# Altium integrated library Analog Devices Data Converters Analog-to-Digital Converters.IntLib: 2404 symbols (part 45 of 346)
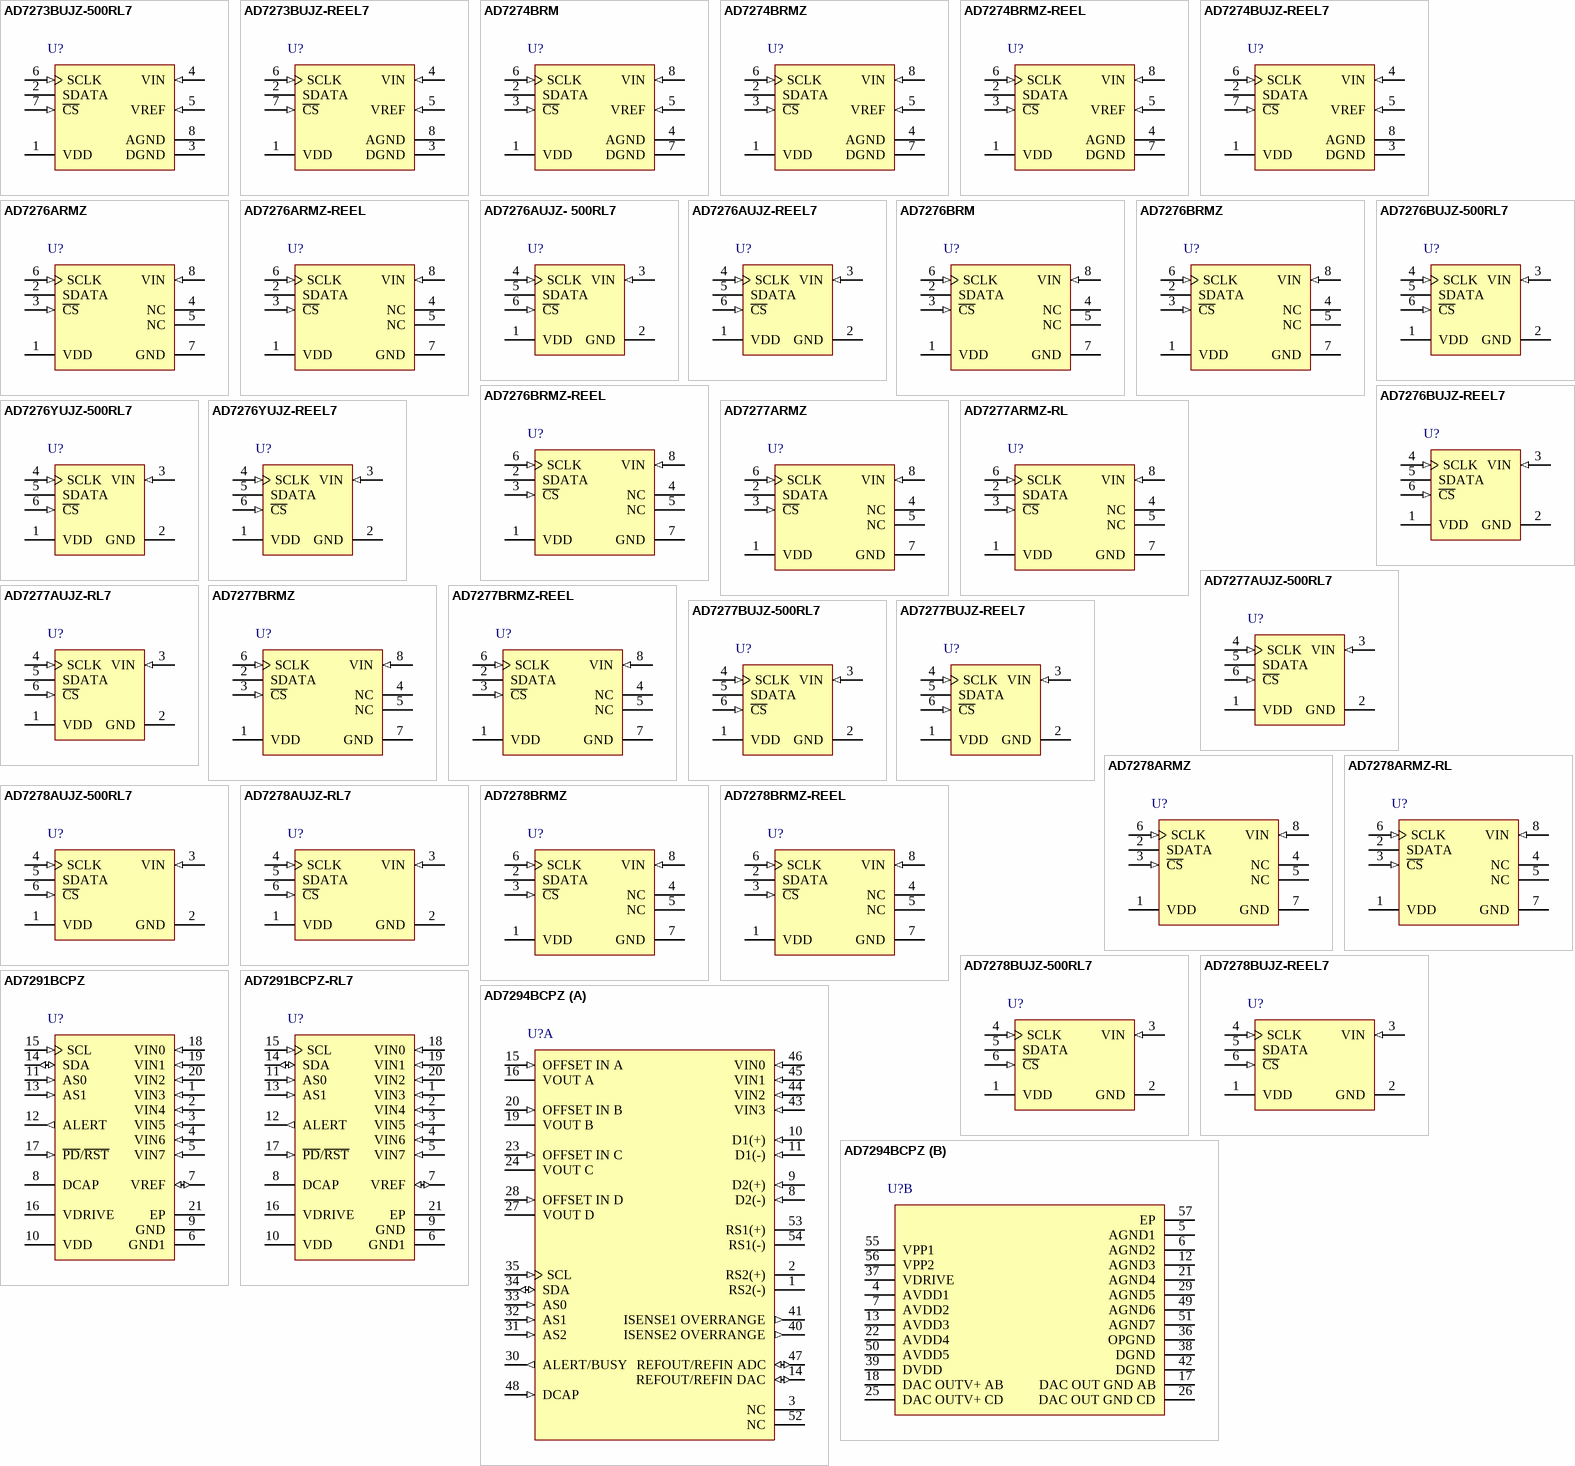
[diagram p180: symbols AD7273BUJZ-500RL7 to AD7294BCPZ]

## AD7278BRMZ
designator U?
Single 8-Bit Analog-to-Digital Converter with Serial, SPI Interface, 3MSPS, -40 to +125 degC, RM-8, Pb-Free, Tube; Generic Part Number: AD7278; Manufacturer: Analog Devices; PartNumber: AD7278BRMZ; Resolution (Bits): 8; Channels: 1; Throughput Rate (SPS): 3M; Interface: Ser, SPI; DatasheetVersion: Rev.C; PackageVersion: Aug-2005; PackageReference: RM-8; PackageDescription: 8-Lead Mini Small Outline Package [MSOP]; Supplier 1: Digi-Key; Supplier Part Number 1: AD7278BRMZ-ND; Supplier 2: Newark; Supplier Part Number 2: 59K4681; Supplier 3: Mouser; Supplier Part Number 3: 584-AD7278BRMZ; RoHS: Y; Packing: Tube; Mounting Technology: Surface Mount; Code_JEDEC: MO-187-AA; ComponentLink1Description: Manufacturer URL; ComponentLink1URL: http://www.analog.com/en/index.html; ComponentLink2Description: Datasheet; ComponentLink2URL: http://www.analog.com/static/imported-files/data_sheets/AD7276_7277_7278.pdf; ComponentLink3Description: Package Specification; ComponentLink3URL: http://www.analog.com/static/imported-files/packages/PKG_PDF/MSOP%28RM%29/RM_8.pdf; ComponentLink4Description: Product URL; ComponentLink4URL: http://www.analog.com/en/analog-to-digital-converters/ad-converters/ad7278/products/product.html
footprint RM-8_N (TSOP, 8-Leads, Body 3x3mm, Pitch 0.65mm, IPC Medium Density)
footprint RM-8_L (TSOP, 8-Leads, Body 3x3mm, Pitch 0.65mm, IPC High Density)
footprint RM-8_M (TSOP, 8-Leads, Body 3x3mm, Pitch 0.65mm, IPC Low Density)
pins: 1 VDD (power) "Power Supply Input. The VDD range for the AD7276/AD7277/AD7278 is 2.35 V to 3.6 V.", 2 SDATA (hiz) "Data Out. Logic output. The conversion result from the AD7276/AD7277/AD7278 is provided on this output as a serial data stream. The bits are clocked out on the falling edge of the SCLK input. The data stream from the AD7276 (See Datasheet)", 3 ~{CS} (in) "Chip Select. Active low logic input. This input provides the dual function of initiating conversion on the AD7276/AD7277/AD7278 and framing the serial data transfer.", 4 NC "No Connect.", 5 NC "No Connect.", 6 SCLK (in) "Serial Clock. Logic input. SCLK provides the serial clock for accessing data from the part. This clock input is also used as the clock source for the conversion process of the AD7276/AD7277/AD7278.", 7 GND (power) "Analog Ground. Ground reference point for all circuitry on the AD7276/AD7277/AD7278. All analog input signals should be referred to this GND voltage.", 8 VIN (in) "Analog Input. Single-ended analog input channel. The input range is 0 V to VDD."

## AD7278BRMZ-REEL
designator U?
Single 8-Bit Analog-to-Digital Converter with Serial, SPI Interface, 3MSPS, -40 to +125 degC, RM-8, Pb-Free, Reel; Generic Part Number: AD7278; Manufacturer: Analog Devices; PartNumber: AD7278BRMZ-REEL; Resolution (Bits): 8; Channels: 1; Throughput Rate (SPS): 3M; Interface: Ser, SPI; DatasheetVersion: Rev.C; PackageVersion: Aug-2005; PackageReference: RM-8; PackageDescription: 8-Lead Mini Small Outline Package [MSOP]; Supplier 1: Digi-Key; Supplier Part Number 1: AD7278BRMZ-REEL-ND; Supplier 2: Mouser; Supplier Part Number 2: 584-AD7278BRMZ-R; RoHS: Y; Packing: Reel; Mounting Technology: Surface Mount; Code_JEDEC: MO-187-AA; ComponentLink1Description: Manufacturer URL; ComponentLink1URL: http://www.analog.com/en/index.html; ComponentLink2Description: Datasheet; ComponentLink2URL: http://www.analog.com/static/imported-files/data_sheets/AD7276_7277_7278.pdf; ComponentLink3Description: Package Specification; ComponentLink3URL: http://www.analog.com/static/imported-files/packages/PKG_PDF/MSOP%28RM%29/RM_8.pdf; ComponentLink4Description: Product URL; ComponentLink4URL: http://www.analog.com/en/analog-to-digital-converters/ad-converters/ad7278/products/product.html
footprint RM-8_N (TSOP, 8-Leads, Body 3x3mm, Pitch 0.65mm, IPC Medium Density)
footprint RM-8_L (TSOP, 8-Leads, Body 3x3mm, Pitch 0.65mm, IPC High Density)
footprint RM-8_M (TSOP, 8-Leads, Body 3x3mm, Pitch 0.65mm, IPC Low Density)
pins: 1 VDD (power) "Power Supply Input. The VDD range for the AD7276/AD7277/AD7278 is 2.35 V to 3.6 V.", 2 SDATA (hiz) "Data Out. Logic output. The conversion result from the AD7276/AD7277/AD7278 is provided on this output as a serial data stream. The bits are clocked out on the falling edge of the SCLK input. The data stream from the AD7276 (See Datasheet)", 3 ~{CS} (in) "Chip Select. Active low logic input. This input provides the dual function of initiating conversion on the AD7276/AD7277/AD7278 and framing the serial data transfer.", 4 NC "No Connect.", 5 NC "No Connect.", 6 SCLK (in) "Serial Clock. Logic input. SCLK provides the serial clock for accessing data from the part. This clock input is also used as the clock source for the conversion process of the AD7276/AD7277/AD7278.", 7 GND (power) "Analog Ground. Ground reference point for all circuitry on the AD7276/AD7277/AD7278. All analog input signals should be referred to this GND voltage.", 8 VIN (in) "Analog Input. Single-ended analog input channel. The input range is 0 V to VDD."

## AD7278BUJZ-500RL7
designator U?
Single 8-Bit Analog-to-Digital Converter with Serial, SPI Interface, 3MSPS, -40 to +125 degC, UJ-6, Pb-Free, Reel; Generic Part Number: AD7278; Manufacturer: Analog Devices; PartNumber: AD7278BUJZ-500RL7; Resolution (Bits): 8; Channels: 1; Throughput Rate (SPS): 3M; Interface: Ser, SPI; DatasheetVersion: Rev.C; PackageVersion: Dec-2004; PackageReference: UJ-6; PackageDescription: 6-Lead Thin Small Outline Transistor Package [TSOT]; Supplier 1: Digi-Key; Supplier Part Number 1: AD7278BUJZ-500RL7TR-ND; Supplier 2: Digi-Key; Supplier Part Number 2: AD7278BUJZ-500RL7CT-ND; Supplier 3: Digi-Key; Supplier Part Number 3: AD7278BUJZ-500RL7DKR-ND; Supplier 4: Newark; Supplier Part Number 4: 59K4684; Supplier 5: Mouser; Supplier Part Number 5: 584-AD7278BUJZ-500R7; RoHS: Y; Packing: Reel; Mounting Technology: Surface Mount; Code_JEDEC: MO-193-AA*; ComponentLink1Description: Manufacturer URL; ComponentLink1URL: http://www.analog.com/en/index.html; ComponentLink2Description: Datasheet; ComponentLink2URL: http://www.analog.com/static/imported-files/data_sheets/AD7276_7277_7278.pdf; ComponentLink3Description: Package Specification; ComponentLink3URL: http://www.analog.com/static/imported-files/packages/PKG_PDF/TSOT(UJ)/UJ_6.pdf; ComponentLink4Description: Product URL; ComponentLink4URL: http://www.analog.com/en/analog-to-digital-converters/ad-converters/ad7278/products/product.html
footprint UJ-6_N (SOT23, 6-Leads, Body 2.9x1.6mm, Pitch 0.95mm, Lead Span 2.8mm, IPC Medium Density)
footprint UJ-6_L (SOT23, 6-Leads, Body 2.9x1.6mm, Pitch 0.95mm, Lead Span 2.8mm, IPC High Density)
footprint UJ-6_M (SOT23, 6-Leads, Body 2.9x1.6mm, Pitch 0.95mm, Lead Span 2.8mm, IPC Low Density)
pins: 1 VDD (power) "Power Supply Input. The VDD range for the AD7276/AD7277/AD7278 is 2.35 V to 3.6 V.", 2 GND (power) "Analog Ground. Ground reference point for all circuitry on the AD7276/AD7277/AD7278. All analog input signals should be referred to this GND voltage.", 3 VIN (in) "Analog Input. Single-ended analog input channel. The input range is 0 V to VDD.", 4 SCLK (in) "Serial Clock. Logic input. SCLK provides the serial clock for accessing data from the part. This clock input is also used as the clock source for the conversion process of the AD7276/AD7277/AD7278.", 5 SDATA (hiz) "Data Out. Logic output. The conversion result from the AD7276/AD7277/AD7278 is provided on this output as a serial data stream. The bits are clocked out on the falling edge of the SCLK input. The data stream from the AD7276 (See Datasheet)", 6 ~{CS} (in) "Chip Select. Active low logic input. This input provides the dual function of initiating conversion on the AD7276/AD7277/AD7278 and framing the serial data transfer."

## AD7278BUJZ-REEL7
designator U?
Single 8-Bit Analog-to-Digital Converter with Serial, SPI Interface, 3MSPS, -40 to +125 degC, UJ-6, Pb-Free, Reel; Generic Part Number: AD7278; Manufacturer: Analog Devices; PartNumber: AD7278BUJZ-REEL7; Resolution (Bits): 8; Channels: 1; Throughput Rate (SPS): 3M; Interface: Ser, SPI; DatasheetVersion: Rev.C; PackageVersion: Dec-2004; PackageReference: UJ-6; PackageDescription: 6-Lead Thin Small Outline Transistor Package [TSOT]; Supplier 1: Digi-Key; Supplier Part Number 1: AD7278BUJZ-REEL7TR-ND; Supplier 2: Digi-Key; Supplier Part Number 2: AD7278BUJZ-REEL7CT-ND; Supplier 3: Digi-Key; Supplier Part Number 3: AD7278BUJZ-REEL7DKR-ND; Supplier 4: Newark; Supplier Part Number 4: 59K4683; Supplier 5: Mouser; Supplier Part Number 5: 584-AD7278BUJZ-R7; RoHS: Y; Packing: Reel; Mounting Technology: Surface Mount; Code_JEDEC: MO-193-AA*; ComponentLink1Description: Manufacturer URL; ComponentLink1URL: http://www.analog.com/en/index.html; ComponentLink2Description: Datasheet; ComponentLink2URL: http://www.analog.com/static/imported-files/data_sheets/AD7276_7277_7278.pdf; ComponentLink3Description: Package Specification; ComponentLink3URL: http://www.analog.com/static/imported-files/packages/PKG_PDF/TSOT(UJ)/UJ_6.pdf; ComponentLink4Description: Product URL; ComponentLink4URL: http://www.analog.com/en/analog-to-digital-converters/ad-converters/ad7278/products/product.html
footprint UJ-6_N (SOT23, 6-Leads, Body 2.9x1.6mm, Pitch 0.95mm, Lead Span 2.8mm, IPC Medium Density)
footprint UJ-6_L (SOT23, 6-Leads, Body 2.9x1.6mm, Pitch 0.95mm, Lead Span 2.8mm, IPC High Density)
footprint UJ-6_M (SOT23, 6-Leads, Body 2.9x1.6mm, Pitch 0.95mm, Lead Span 2.8mm, IPC Low Density)
pins: 1 VDD (power) "Power Supply Input. The VDD range for the AD7276/AD7277/AD7278 is 2.35 V to 3.6 V.", 2 GND (power) "Analog Ground. Ground reference point for all circuitry on the AD7276/AD7277/AD7278. All analog input signals should be referred to this GND voltage.", 3 VIN (in) "Analog Input. Single-ended analog input channel. The input range is 0 V to VDD.", 4 SCLK (in) "Serial Clock. Logic input. SCLK provides the serial clock for accessing data from the part. This clock input is also used as the clock source for the conversion process of the AD7276/AD7277/AD7278.", 5 SDATA (hiz) "Data Out. Logic output. The conversion result from the AD7276/AD7277/AD7278 is provided on this output as a serial data stream. The bits are clocked out on the falling edge of the SCLK input. The data stream from the AD7276 (See Datasheet)", 6 ~{CS} (in) "Chip Select. Active low logic input. This input provides the dual function of initiating conversion on the AD7276/AD7277/AD7278 and framing the serial data transfer."

## AD7291BCPZ
designator U?
Octal 12-Bit SAR Analog-to-Digital Converter with I2C/Serial 2-Wire, Serial Interface and Temperature Sensor, 22.2KSPS, -40 to +125 degC, CP-20-8, Pb-Free, Tray; Generic Part Number: AD7291; Manufacturer: Analog Devices; PartNumber: AD7291BCPZ; Resolution (Bits): 12; Channels: 9; Throughput Rate (SPS): 22.2K; Interface: I2C/Ser 2-Wire, Ser; DatasheetVersion: Rev.B; PackageVersion: 020509-B; PackageReference: CP-20-8; PackageDescription: 20-Lead Lead Frame Chip Scale Package [LFCSP_WQ] 4 x 4 mm Body, Very Very Thin Quad; Supplier 1: Digi-Key; Supplier Part Number 1: AD7291BCPZ-ND; Supplier 2: Farnell; Supplier Part Number 2: 1897104; Supplier 3: Newark; Supplier Part Number 3: 31T9307; Supplier 4: Mouser; Supplier Part Number 4: 584-AD7291BCPZ; RoHS: Y; Packing: Tray; Mounting Technology: Surface Mount; Code_JEDEC: MO-220-WGGD; ComponentLink1Description: Manufacturer URL; ComponentLink1URL: http://www.analog.com/en/index.html; ComponentLink2Description: Datasheet; ComponentLink2URL: http://www.analog.com/static/imported-files/data_sheets/AD7291.pdf; ComponentLink3Description: Package Specification; ComponentLink3URL: http://www.analog.com/static/imported-files/packages/PKG_PDF/LFCSP(CP)/CP-20/CP_20_8.pdf; ComponentLink4Description: Product URL; ComponentLink4URL: http://www.analog.com/en/analog-to-digital-converters/ad-converters/ad7291/products/product.html
footprint CP-20-8_N (QFN, 20-Leads, Body 4x4mm, Pitch 0.5mm, Thermal Pad 2.6x2.6mm, IPC Medium Density)
footprint CP-20-8_L (QFN, 20-Leads, Body 4x4mm, Pitch 0.5mm, Thermal Pad 2.6x2.6mm, IPC High Density)
footprint CP-20-8_M (QFN, 20-Leads, Body 4x4mm, Pitch 0.5mm, Thermal Pad 2.6x2.6mm, IPC Low Density)
pins: 1 VIN3 (in) "Analog Inputs. The AD7291 has eight single-ended analog inputs that are multiplexed into the on-chip track-and-hold amplifier. Each input channel can accept analog inputs from 0 V to 2.5 V. Any unused input channels should (See Datasheet)", 2 VIN4 (in) "Analog Inputs. The AD7291 has eight single-ended analog inputs that are multiplexed into the on-chip track-and-hold amplifier. Each input channel can accept analog inputs from 0 V to 2.5 V. Any unused input channels should (See Datasheet)", 3 VIN5 (in) "Analog Inputs. The AD7291 has eight single-ended analog inputs that are multiplexed into the on-chip track-and-hold amplifier. Each input channel can accept analog inputs from 0 V to 2.5 V. Any unused input channels should (See Datasheet)", 4 VIN6 (in) "Analog Inputs. The AD7291 has eight single-ended analog inputs that are multiplexed into the on-chip track-and-hold amplifier. Each input channel can accept analog inputs from 0 V to 2.5 V. Any unused input channels should (See Datasheet)", 5 VIN7 (in) "Analog Inputs. The AD7291 has eight single-ended analog inputs that are multiplexed into the on-chip track-and-hold amplifier. Each input channel can accept analog inputs from 0 V to 2.5 V. Any unused input channels should (See Datasheet)", 6 GND1 (power) "Ground. Ground reference point for the internal reference circuitry on the AD7291. All analog input signals and the external reference signals should be referred to this GND1 voltage. The GND1 pin should be connected to the (See Datasheet)", 7 VREF (io) "Internal Reference/External Reference Supply. The nominal internal reference voltage of 2.5 V appears at this pin.Provided the output is buffered, the on-chip reference can be taken from this pin and applied externally to (See Datasheet)", 8 DCAP "Decoupling Capacitor Pin. Decoupling capacitors (1 uF recommended) are connected to this pin to decouple the internal LDO.", 9 GND (power) "Ground. Ground reference point for all analog and digital circuitry on the AD7291. The GND pin should be connected to the ground plane of the system. All ground pins should ideally be at the same potential and must not be (See Datasheet)", 10 VDD (power) "Supply Voltage, 2.8 V to 3.6 V. This supply should be decoupled to GND with 10 uF and 100 nF decoupling capacitors.", 11 AS0 (in) "Logic Input. Together, the logic state of these two inputs selects a unique I2C address for the AD7291.See Table 31 for details. The device address depends on the voltage applied to these pins.", 12 ALERT (out) "Digital Output. This pin acts as an out-of-range indicator and, if enabled, becomes active when the conversion result violates the DATAHIGH or DATALOW register values. See the Limit Registers (0x04 to 0x1E) section.", 13 AS1 (in) "Logic Input. Together, the logic state of these two inputs selects a unique I2C address for the AD7291.See Table 31 for details. The device address depends on the voltage applied to these pins.", 14 SDA (io) "Digital Input/Output. Serial bus bidirectional data. This open-drain output requires a pull-up resistor. The output coding is straight binary for the voltage channels and twos complement for the temperature sensor result.", 15 SCL (in) "Digital Input. Serial I2C Bus Clock. This input requires a pull-up resistor. The data transfer rate in I2C  mode is compatible with both 100 kHz and 400 kHz operating modes.", 16 VDRIVE (power) "Logic Power Supply Input. The voltage supplied at this pin determines the voltage at which the interface operates.This pin should be decoupled to GND. The voltage range on this pin is 1.65 V to 3.6 V and may be less than the (See Datasheet)", 17 ~{PD}/~{RST} (in) "Power-Down Pin. This pin places the part into a full power-down mode and enables power conservation when operation is not required. This pin can be used to reset the device by toggling the pin low for a minimum of 1 ns and a (See Datasheet)", 18 VIN0 (in) "Analog Inputs. The AD7291 has eight single-ended analog inputs that are multiplexed into the on-chip track-and-hold amplifier. Each input channel can accept analog inputs from 0 V to 2.5 V. Any unused input channels should (See Datasheet)", 19 VIN1 (in) "Analog Inputs. The AD7291 has eight single-ended analog inputs that are multiplexed into the on-chip track-and-hold amplifier. Each input channel can accept analog inputs from 0 V to 2.5 V. Any unused input channels should (See Datasheet)", 20 VIN2 (in) "Analog Inputs. The AD7291 has eight single-ended analog inputs that are multiplexed into the on-chip track-and-hold amplifier. Each input channel can accept analog inputs from 0 V to 2.5 V. Any unused input channels should (See Datasheet)", 21 EP (power) "Exposed Paddle. The exposed metal paddle on the bottom of the LFCSP package should be soldered to PCB ground for proper functionality and heat dissipation."

## AD7291BCPZ-RL7
designator U?
Octal 12-Bit SAR Analog-to-Digital Converter with I2C/Serial 2-Wire, Serial Interface and Temperature Sensor, 22.2KSPS, -40 to +125 degC, CP-20-8, Pb-Free, Reel; Generic Part Number: AD7291; Manufacturer: Analog Devices; PartNumber: AD7291BCPZ-RL7; Resolution (Bits): 12; Channels: 9; Throughput Rate (SPS): 22.2K; Interface: I2C/Ser 2-Wire, Ser; DatasheetVersion: Rev.B; PackageVersion: 020509-B; PackageReference: CP-20-8; PackageDescription: 20-Lead Lead Frame Chip Scale Package [LFCSP_WQ] 4 x 4 mm Body, Very Very Thin Quad; Supplier 1: Digi-Key; Supplier Part Number 1: AD7291BCPZ-RL7-ND; Supplier 2: Newark; Supplier Part Number 2: 31T9308; Supplier 3: Mouser; Supplier Part Number 3: 584-AD7291BCPZ-R7; RoHS: Y; Packing: Reel; Mounting Technology: Surface Mount; Code_JEDEC: MO-220-WGGD; ComponentLink1Description: Manufacturer URL; ComponentLink1URL: http://www.analog.com/en/index.html; ComponentLink2Description: Datasheet; ComponentLink2URL: http://www.analog.com/static/imported-files/data_sheets/AD7291.pdf; ComponentLink3Description: Package Specification; ComponentLink3URL: http://www.analog.com/static/imported-files/packages/PKG_PDF/LFCSP(CP)/CP-20/CP_20_8.pdf; ComponentLink4Description: Product URL; ComponentLink4URL: http://www.analog.com/en/analog-to-digital-converters/ad-converters/ad7291/products/product.html
footprint CP-20-8_N (QFN, 20-Leads, Body 4x4mm, Pitch 0.5mm, Thermal Pad 2.6x2.6mm, IPC Medium Density)
footprint CP-20-8_L (QFN, 20-Leads, Body 4x4mm, Pitch 0.5mm, Thermal Pad 2.6x2.6mm, IPC High Density)
footprint CP-20-8_M (QFN, 20-Leads, Body 4x4mm, Pitch 0.5mm, Thermal Pad 2.6x2.6mm, IPC Low Density)
pins: 1 VIN3 (in) "Analog Inputs. The AD7291 has eight single-ended analog inputs that are multiplexed into the on-chip track-and-hold amplifier. Each input channel can accept analog inputs from 0 V to 2.5 V. Any unused input channels should (See Datasheet)", 2 VIN4 (in) "Analog Inputs. The AD7291 has eight single-ended analog inputs that are multiplexed into the on-chip track-and-hold amplifier. Each input channel can accept analog inputs from 0 V to 2.5 V. Any unused input channels should (See Datasheet)", 3 VIN5 (in) "Analog Inputs. The AD7291 has eight single-ended analog inputs that are multiplexed into the on-chip track-and-hold amplifier. Each input channel can accept analog inputs from 0 V to 2.5 V. Any unused input channels should (See Datasheet)", 4 VIN6 (in) "Analog Inputs. The AD7291 has eight single-ended analog inputs that are multiplexed into the on-chip track-and-hold amplifier. Each input channel can accept analog inputs from 0 V to 2.5 V. Any unused input channels should (See Datasheet)", 5 VIN7 (in) "Analog Inputs. The AD7291 has eight single-ended analog inputs that are multiplexed into the on-chip track-and-hold amplifier. Each input channel can accept analog inputs from 0 V to 2.5 V. Any unused input channels should (See Datasheet)", 6 GND1 (power) "Ground. Ground reference point for the internal reference circuitry on the AD7291. All analog input signals and the external reference signals should be referred to this GND1 voltage. The GND1 pin should be connected to the (See Datasheet)", 7 VREF (io) "Internal Reference/External Reference Supply. The nominal internal reference voltage of 2.5 V appears at this pin.Provided the output is buffered, the on-chip reference can be taken from this pin and applied externally to (See Datasheet)", 8 DCAP "Decoupling Capacitor Pin. Decoupling capacitors (1 uF recommended) are connected to this pin to decouple the internal LDO.", 9 GND (power) "Ground. Ground reference point for all analog and digital circuitry on the AD7291. The GND pin should be connected to the ground plane of the system. All ground pins should ideally be at the same potential and must not be (See Datasheet)", 10 VDD (power) "Supply Voltage, 2.8 V to 3.6 V. This supply should be decoupled to GND with 10 uF and 100 nF decoupling capacitors.", 11 AS0 (in) "Logic Input. Together, the logic state of these two inputs selects a unique I2C address for the AD7291.See Table 31 for details. The device address depends on the voltage applied to these pins.", 12 ALERT (out) "Digital Output. This pin acts as an out-of-range indicator and, if enabled, becomes active when the conversion result violates the DATAHIGH or DATALOW register values. See the Limit Registers (0x04 to 0x1E) section.", 13 AS1 (in) "Logic Input. Together, the logic state of these two inputs selects a unique I2C address for the AD7291.See Table 31 for details. The device address depends on the voltage applied to these pins.", 14 SDA (io) "Digital Input/Output. Serial bus bidirectional data. This open-drain output requires a pull-up resistor. The output coding is straight binary for the voltage channels and twos complement for the temperature sensor result.", 15 SCL (in) "Digital Input. Serial I2C Bus Clock. This input requires a pull-up resistor. The data transfer rate in I2C  mode is compatible with both 100 kHz and 400 kHz operating modes.", 16 VDRIVE (power) "Logic Power Supply Input. The voltage supplied at this pin determines the voltage at which the interface operates.This pin should be decoupled to GND. The voltage range on this pin is 1.65 V to 3.6 V and may be less than the (See Datasheet)", 17 ~{PD}/~{RST} (in) "Power-Down Pin. This pin places the part into a full power-down mode and enables power conservation when operation is not required. This pin can be used to reset the device by toggling the pin low for a minimum of 1 ns and a (See Datasheet)", 18 VIN0 (in) "Analog Inputs. The AD7291 has eight single-ended analog inputs that are multiplexed into the on-chip track-and-hold amplifier. Each input channel can accept analog inputs from 0 V to 2.5 V. Any unused input channels should (See Datasheet)", 19 VIN1 (in) "Analog Inputs. The AD7291 has eight single-ended analog inputs that are multiplexed into the on-chip track-and-hold amplifier. Each input channel can accept analog inputs from 0 V to 2.5 V. Any unused input channels should (See Datasheet)", 20 VIN2 (in) "Analog Inputs. The AD7291 has eight single-ended analog inputs that are multiplexed into the on-chip track-and-hold amplifier. Each input channel can accept analog inputs from 0 V to 2.5 V. Any unused input channels should (See Datasheet)", 21 EP (power) "Exposed Paddle. The exposed metal paddle on the bottom of the LFCSP package should be soldered to PCB ground for proper functionality and heat dissipation."

## AD7294BCPZ
designator U?
12-Bit Monitor and Control System with Multichannel ADC, DAC, Temperature Sensor, and Current Sense, 200KSPS, -40 to +105 degC, CP-56-1, Pb-Free, Tray; Generic Part Number: AD7294; Manufacturer: Analog Devices; PartNumber: AD7294BCPZ; Resolution (Bits): 12; Channels: 9; Throughput Rate (SPS): 200K; Interface: I2C/Ser 2-Wire, Ser; DatasheetVersion: Rev.H; PackageVersion: 112805-0; PackageReference: CP-56-1; PackageDescription: 56-Lead Lead Frame Chip Scale Package [LFCSP_VQ], 8 x 8 mm Body, Very Thin Quad; Supplier 1: Digi-Key; Supplier Part Number 1: AD7294BCPZ-ND; Supplier 2: Mouser; Supplier Part Number 2: 584-AD7294BCPZ; RoHS: Y; Packing: Tray; Mounting Technology: Surface Mount; Code_JEDEC: MO-220-VLLD-2; ComponentLink1Description: Manufacturer URL; ComponentLink1URL: http://www.analog.com/en/index.html; ComponentLink2Description: Datasheet; ComponentLink2URL: http://www.analog.com/static/imported-files/data_sheets/AD7294.pdf; ComponentLink3Description: Package Specification; ComponentLink3URL: http://www.analog.com/static/imported-files/packages/32698137492825CP_56_1.pdf; ComponentLink4Description: Product URL; ComponentLink4URL: http://www.analog.com/en/analog-to-digital-converters/ad-converters/ad7294/products/product.html
footprint CP-56-1_N (QFN, 56-Leads, Body 8x8mm, Pitch 0.5mm, Thermal Pad 6.1x6.1mm, IPC Medium Density)
footprint CP-56-1_L (QFN, 56-Leads, Body 8x8mm, Pitch 0.5mm, Thermal Pad 6.1x6.1mm, IPC High Density)
footprint CP-56-1_M (QFN, 56-Leads, Body 8x8mm, Pitch 0.5mm, Thermal Pad 6.1x6.1mm, IPC Low Density)
part A pins: 1 RS2(-) "Connection for External Shunt Resistor", 2 RS2(+) "Connection for External Shunt Resistor", 3 NC "No Connection. Do not connect these pins.", 8 D2(-) (in) "Temperature Sensor Analog Input. These pins are connected to the external temperature sensing transistor. See Figure 46 and Figure 47.", 9 D2(+) (in) "Temperature Sensor Analog Input. These pins are connected to the external temperature sensing transistor. See Figure 46 and Figure 47.", 10 D1(+) (in) "Temperature Sensor Analog Input. These pins are connected to the external temperature sensing transistor. See Figure 46 and Figure 47.", 11 D1(-) (in) "Temperature Sensor Analog Input. These pins are connected to the external temperature sensing transistor. See Figure 46 and Figure 47.", 14 REFOUT/REFIN DAC (io) "DAC Reference Output/Input Pin. The REFOUT/REFIN DAC pin is common to all four DAC channels. On power-up, the default configuration of this pin is external reference (REFIN). Enable the internal reference by writing to the (See Datasheet)", 15 OFFSET IN A (in) "DAC Analog Offset Input Pins. These pins set the desired output range for each DAC channel. The DACs have an output voltage span of 5 V, which can be shifted from 0 V to 5 V to a maximum output voltage of 10 V to 15 V by (See Datasheet)", 16 VOUT A (hiz) "Buffered Analog DAC Outputs for Channel A to Channel D. Each DAC analog output is driven from an output amplifier that can be offset using the OFFSET IN x pin. The DAC has a maximum output voltage span of 5 V that can be (See Datasheet)", 19 VOUT B (hiz) "Buffered Analog DAC Outputs for Channel A to Channel D. Each DAC analog output is driven from an output amplifier that can be offset using the OFFSET IN x pin. The DAC has a maximum output voltage span of 5 V that can be (See Datasheet)", 20 OFFSET IN B (in) "DAC Analog Offset Input Pins. These pins set the desired output range for each DAC channel. The DACs have an output voltage span of 5 V, which can be shifted from 0 V to 5 V to a maximum output voltage of 10 V to 15 V by (See Datasheet)", 23 OFFSET IN C (in) "DAC Analog Offset Input Pins. These pins set the desired output range for each DAC channel. The DACs have an output voltage span of 5 V, which can be shifted from 0 V to 5 V to a maximum output voltage of 10 V to 15 V by (See Datasheet)", 24 VOUT C (hiz) "Buffered Analog DAC Outputs for Channel A to Channel D. Each DAC analog output is driven from an output amplifier that can be offset using the OFFSET IN x pin. The DAC has a maximum output voltage span of 5 V that can be (See Datasheet)", 27 VOUT D (hiz) "Buffered Analog DAC Outputs for Channel A to Channel D. Each DAC analog output is driven from an output amplifier that can be offset using the OFFSET IN x pin. The DAC has a maximum output voltage span of 5 V that can be (See Datasheet)", 28 OFFSET IN D (in) "DAC Analog Offset Input Pins. These pins set the desired output range for each DAC channel. The DACs have an output voltage span of 5 V, which can be shifted from 0 V to 5 V to a maximum output voltage of 10 V to 15 V by (See Datasheet)", 30 ALERT/BUSY (out) "Digital Output. Selectable as an alert or busy output function in the configuration register. This is an open-drain output. An external pull-up resistor is required.When configured as an alert, this pin acts as an (See Datasheet)", 31 AS2 (in) "Digital Logic Input. Together, the logic state of these inputs selects a unique I2C address for the AD7294. See Table 34 for details.", 32 AS1 (in) "Digital Logic Input. Together, the logic state of these inputs selects a unique I2C address for the AD7294. See Table 34 for details.", 33 AS0 (in) "Digital Logic Input. Together, the logic state of these inputs selects a unique I2C address for the AD7294. See Table 34 for details.", 34 SDA (io) "Digital Input/Output. Serial bus bidirectional data; external pull-up resistor required.", 35 SCL (in) "Serial I2C Bus Clock. The data transfer rate in I2C mode is compatible with both 100 kHz and 400 kHz operating modes. Open-drain input; external pull-up resistor required.", 40 ISENSE2 OVERRANGE (out) "Fault Comparator Outputs. These pins connect to the high-side current sense amplifiers.", 41 ISENSE1 OVERRANGE (out) "Fault Comparator Outputs. These pins connect to the high-side current sense amplifiers.", 43 VIN3 (in) "Uncommitted ADC Analog Inputs. These pins are programmable as four single-ended channels or two true differential analog input channel pairs.", 44 VIN2 (in) "Uncommitted ADC Analog Inputs. These pins are programmable as four single-ended channels or two true differential analog input channel pairs.", 45 VIN1 (in) "Uncommitted ADC Analog Inputs. These pins are programmable as four single-ended channels or two true differential analog input channel pairs.", 46 VIN0 (in) "Uncommitted ADC Analog Inputs. These pins are programmable as four single-ended channels or two true differential analog input channel pairs.", 47 REFOUT/REFIN ADC (io) "ADC Reference Input/Output Pin. The REFOUT/REFIN ADC pin provides the reference source for the ADC. Upon power-up, the default configuration of this pin is external reference (REFIN). Enable the internal reference by writing (See Datasheet)", 48 DCAP (in) "External Decoupling Capacitor Input for Internal Temperature Sensor. Decouple this pin to AGND using a 0.1 uF capacitor. In normal operation, the voltage is typically 3.7 V.", 52 NC "No Connection. Do not connect these pins.", 53 RS1(+) "Connection for External Shunt Resistor", 54 RS1(-) "Connection for External Shunt Resistor"
part B pins: 4 AVDD1 (power) "Analog Supply Pins. The operating range is 4.5 V to 5.5 V. These pins provide the supply voltage for all the analog circuitry on the AD7294. Connect the AVDD and DVDD pins together to ensure that all supply pins are at the (See Datasheet)", 5 AGND1 (power) "Analog Ground. Ground reference point for all analog circuitry on the AD7294. Refer all analog input signals and any external reference signal to this AGND voltage. Connect all seven of these AGND pins to the AGND plane of (See Datasheet)", 6 AGND2 (power) "Analog Ground. Ground reference point for all analog circuitry on the AD7294. Refer all analog input signals and any external reference signal to this AGND voltage. Connect all seven of these AGND pins to the AGND plane of (See Datasheet)", 7 AVDD2 (power) "Analog Supply Pins. The operating range is 4.5 V to 5.5 V. These pins provide the supply voltage for all the analog circuitry on the AD7294. Connect the AVDD and DVDD pins together to ensure that all supply pins are at the (See Datasheet)", 12 AGND3 (power) "Analog Ground. Ground reference point for all analog circuitry on the AD7294. Refer all analog input signals and any external reference signal to this AGND voltage. Connect all seven of these AGND pins to the AGND plane of (See Datasheet)", 13 AVDD3 (power) "Analog Supply Pins. The operating range is 4.5 V to 5.5 V. These pins provide the supply voltage for all the analog circuitry on the AD7294. Connect the AVDD and DVDD pins together to ensure that all supply pins are at the (See Datasheet)", 17 DAC OUT GND AB (power) "Analog Ground. Analog ground pins for the DAC output amplifiers on VOUTA and VOUTB, and VOUTC and VOUTD, respectively.", 18 DAC OUTV+ AB (power) "Analog Supply. Analog supply pins for the DAC output amplifiers on VOUTA and VOUTB, and VOUTC and VOUTD, respectively. The operating range is 4.5 V to 16.5 V.", 21 AGND4 (power) "Analog Ground. Ground reference point for all analog circuitry on the AD7294. Refer all analog input signals and any external reference signal to this AGND voltage. Connect all seven of these AGND pins to the AGND plane of (See Datasheet)", 22 AVDD4 (power) "Analog Supply Pins. The operating range is 4.5 V to 5.5 V. These pins provide the supply voltage for all the analog circuitry on the AD7294. Connect the AVDD and DVDD pins together to ensure that all supply pins are at the (See Datasheet)", 25 DAC OUTV+ CD (power) "Analog Supply. Analog supply pins for the DAC output amplifiers on VOUTA and VOUTB, and VOUTC and VOUTD, respectively. The operating range is 4.5 V to 16.5 V.", 26 DAC OUT GND CD (power) "Analog Ground. Analog ground pins for the DAC output amplifiers on VOUTA and VOUTB, and VOUTC and VOUTD, respectively.", 29 AGND5 (power) "Analog Ground. Ground reference point for all analog circuitry on the AD7294. Refer all analog input signals and any external reference signal to this AGND voltage. Connect all seven of these AGND pins to the AGND plane of (See Datasheet)", 36 OPGND (power) "Dedicated Ground Pin for I2C Interface.", 37 VDRIVE (power) "Logic Power Supply. The voltage supplied at this pin determines at what voltage the interface operates. Decouple this pin to DGND. The voltage range on this pin is 2.7 V to 5.5 V and may be different to the voltage level at (See Datasheet)", 38 DGND (power) "Digital Ground. This pin is the ground for all digital circuitry.", 39 DVDD (power) "Logic Power Supply. The operating range is 4.5 V to 5.5 V. These pins provide the supply voltage for all the digital circuitry on the AD7294. Connect the AVDD and DVDD pins together to ensure that all supply pins are at the (See Datasheet)", 42 DGND (power) "Digital Ground. This pin is the ground for all digital circuitry.", 49 AGND6 (power) "Analog Ground. Ground reference point for all analog circuitry on the AD7294. Refer all analog input signals and any external reference signal to this AGND voltage. Connect all seven of these AGND pins to the AGND plane of (See Datasheet)", 50 AVDD5 (power) "Analog Supply Pins. The operating range is 4.5 V to 5.5 V. These pins provide the supply voltage for all the analog circuitry on the AD7294. Connect the AVDD and DVDD pins together to ensure that all supply pins are at the (See Datasheet)", 51 AGND7 (power) "Analog Ground. Ground reference point for all analog circuitry on the AD7294. Refer all analog input signals and any external reference signal to this AGND voltage. Connect all seven of these AGND pins to the AGND plane of (See Datasheet)", 55 VPP1 (power) "Current Sensor Supply Pins. Power supply pins for the high-side current sense amplifiers. Operating range is from AVDD to 59.4 V. Decouple this supply to AGND.", 56 VPP2 (power) "Current Sensor Supply Pins. Power supply pins for the high-side current sense amplifiers. Operating range is from AVDD to 59.4 V. Decouple this supply to AGND.", 57 EP (power) "The exposed pad is located on the underside of the package. Connect the exposed pad to the ground plane of the PCB using multiple vias."

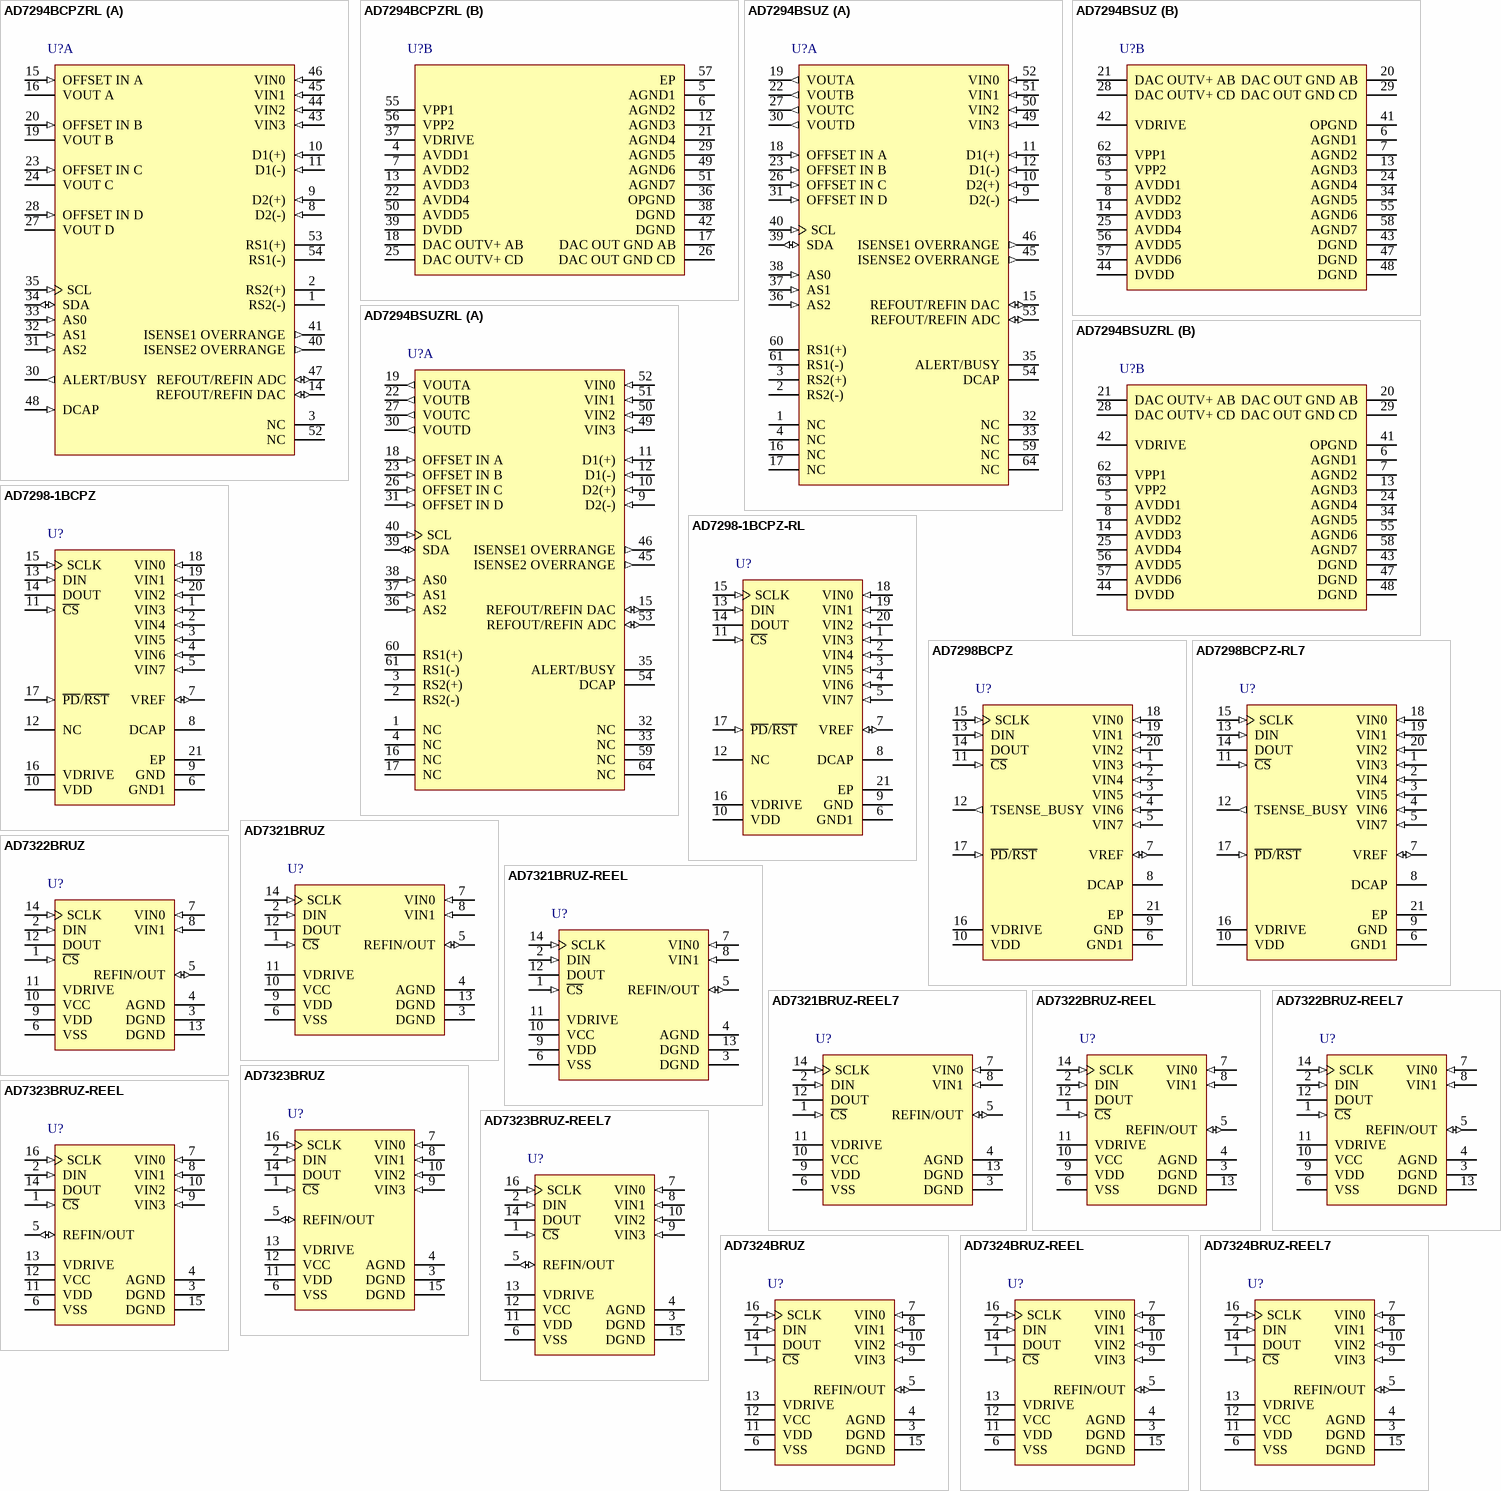
[diagram p19: symbols AD7294BCPZRL to AD7324BRUZ-REEL7]

## AD7294BCPZRL
designator U?
12-Bit Monitor and Control System with Multichannel ADC, DAC, Temperature Sensor, and Current Sense, 200KSPS, -40 to +105 degC, CP-56-1, Pb-Free, Reel; Generic Part Number: AD7294; Manufacturer: Analog Devices; PartNumber: AD7294BCPZRL; Resolution (Bits): 12; Channels: 9; Throughput Rate (SPS): 200K; Interface: I2C/Ser 2-Wire, Ser; DatasheetVersion: Rev.H; PackageVersion: 112805-0; PackageReference: CP-56-1; PackageDescription: 56-Lead Lead Frame Chip Scale Package [LFCSP_VQ], 8 x 8 mm Body, Very Thin Quad; Supplier 1: Digi-Key; Supplier Part Number 1: AD7294BCPZRL-ND; Supplier 2: Newark; Supplier Part Number 2: 18T2144; Supplier 3: Mouser; Supplier Part Number 3: 584-AD7294BCPZR; RoHS: Y; Packing: Reel; Mounting Technology: Surface Mount; Code_JEDEC: MO-220-VLLD-2; ComponentLink1Description: Manufacturer URL; ComponentLink1URL: http://www.analog.com/en/index.html; ComponentLink2Description: Datasheet; ComponentLink2URL: http://www.analog.com/static/imported-files/data_sheets/AD7294.pdf; ComponentLink3Description: Package Specification; ComponentLink3URL: http://www.analog.com/static/imported-files/packages/32698137492825CP_56_1.pdf; ComponentLink4Description: Product URL; ComponentLink4URL: http://www.analog.com/en/analog-to-digital-converters/ad-converters/ad7294/products/product.html
footprint CP-56-1_N (QFN, 56-Leads, Body 8x8mm, Pitch 0.5mm, Thermal Pad 6.1x6.1mm, IPC Medium Density)
footprint CP-56-1_L (QFN, 56-Leads, Body 8x8mm, Pitch 0.5mm, Thermal Pad 6.1x6.1mm, IPC High Density)
footprint CP-56-1_M (QFN, 56-Leads, Body 8x8mm, Pitch 0.5mm, Thermal Pad 6.1x6.1mm, IPC Low Density)
part A pins: 1 RS2(-) "Connection for External Shunt Resistor", 2 RS2(+) "Connection for External Shunt Resistor", 3 NC "No Connection. Do not connect these pins.", 8 D2(-) (in) "Temperature Sensor Analog Input. These pins are connected to the external temperature sensing transistor. See Figure 46 and Figure 47.", 9 D2(+) (in) "Temperature Sensor Analog Input. These pins are connected to the external temperature sensing transistor. See Figure 46 and Figure 47.", 10 D1(+) (in) "Temperature Sensor Analog Input. These pins are connected to the external temperature sensing transistor. See Figure 46 and Figure 47.", 11 D1(-) (in) "Temperature Sensor Analog Input. These pins are connected to the external temperature sensing transistor. See Figure 46 and Figure 47.", 14 REFOUT/REFIN DAC (io) "DAC Reference Output/Input Pin. The REFOUT/REFIN DAC pin is common to all four DAC channels. On power-up, the default configuration of this pin is external reference (REFIN). Enable the internal reference by writing to the (See Datasheet)", 15 OFFSET IN A (in) "DAC Analog Offset Input Pins. These pins set the desired output range for each DAC channel. The DACs have an output voltage span of 5 V, which can be shifted from 0 V to 5 V to a maximum output voltage of 10 V to 15 V by (See Datasheet)", 16 VOUT A (hiz) "Buffered Analog DAC Outputs for Channel A to Channel D. Each DAC analog output is driven from an output amplifier that can be offset using the OFFSET IN x pin. The DAC has a maximum output voltage span of 5 V that can be (See Datasheet)", 19 VOUT B (hiz) "Buffered Analog DAC Outputs for Channel A to Channel D. Each DAC analog output is driven from an output amplifier that can be offset using the OFFSET IN x pin. The DAC has a maximum output voltage span of 5 V that can be (See Datasheet)", 20 OFFSET IN B (in) "DAC Analog Offset Input Pins. These pins set the desired output range for each DAC channel. The DACs have an output voltage span of 5 V, which can be shifted from 0 V to 5 V to a maximum output voltage of 10 V to 15 V by (See Datasheet)", 23 OFFSET IN C (in) "DAC Analog Offset Input Pins. These pins set the desired output range for each DAC channel. The DACs have an output voltage span of 5 V, which can be shifted from 0 V to 5 V to a maximum output voltage of 10 V to 15 V by (See Datasheet)", 24 VOUT C (hiz) "Buffered Analog DAC Outputs for Channel A to Channel D. Each DAC analog output is driven from an output amplifier that can be offset using the OFFSET IN x pin. The DAC has a maximum output voltage span of 5 V that can be (See Datasheet)", 27 VOUT D (hiz) "Buffered Analog DAC Outputs for Channel A to Channel D. Each DAC analog output is driven from an output amplifier that can be offset using the OFFSET IN x pin. The DAC has a maximum output voltage span of 5 V that can be (See Datasheet)", 28 OFFSET IN D (in) "DAC Analog Offset Input Pins. These pins set the desired output range for each DAC channel. The DACs have an output voltage span of 5 V, which can be shifted from 0 V to 5 V to a maximum output voltage of 10 V to 15 V by (See Datasheet)", 30 ALERT/BUSY (out) "Digital Output. Selectable as an alert or busy output function in the configuration register. This is an open-drain output. An external pull-up resistor is required.When configured as an alert, this pin acts as an (See Datasheet)", 31 AS2 (in) "Digital Logic Input. Together, the logic state of these inputs selects a unique I2C address for the AD7294. See Table 34 for details.", 32 AS1 (in) "Digital Logic Input. Together, the logic state of these inputs selects a unique I2C address for the AD7294. See Table 34 for details.", 33 AS0 (in) "Digital Logic Input. Together, the logic state of these inputs selects a unique I2C address for the AD7294. See Table 34 for details.", 34 SDA (io) "Digital Input/Output. Serial bus bidirectional data; external pull-up resistor required.", 35 SCL (in) "Serial I2C Bus Clock. The data transfer rate in I2C mode is compatible with both 100 kHz and 400 kHz operating modes. Open-drain input; external pull-up resistor required.", 40 ISENSE2 OVERRANGE (out) "Fault Comparator Outputs. These pins connect to the high-side current sense amplifiers.", 41 ISENSE1 OVERRANGE (out) "Fault Comparator Outputs. These pins connect to the high-side current sense amplifiers.", 43 VIN3 (in) "Uncommitted ADC Analog Inputs. These pins are programmable as four single-ended channels or two true differential analog input channel pairs.", 44 VIN2 (in) "Uncommitted ADC Analog Inputs. These pins are programmable as four single-ended channels or two true differential analog input channel pairs.", 45 VIN1 (in) "Uncommitted ADC Analog Inputs. These pins are programmable as four single-ended channels or two true differential analog input channel pairs.", 46 VIN0 (in) "Uncommitted ADC Analog Inputs. These pins are programmable as four single-ended channels or two true differential analog input channel pairs.", 47 REFOUT/REFIN ADC (io) "ADC Reference Input/Output Pin. The REFOUT/REFIN ADC pin provides the reference source for the ADC. Upon power-up, the default configuration of this pin is external reference (REFIN). Enable the internal reference by writing (See Datasheet)", 48 DCAP (in) "External Decoupling Capacitor Input for Internal Temperature Sensor. Decouple this pin to AGND using a 0.1 uF capacitor. In normal operation, the voltage is typically 3.7 V.", 52 NC "No Connection. Do not connect these pins.", 53 RS1(+) "Connection for External Shunt Resistor", 54 RS1(-) "Connection for External Shunt Resistor"
part B pins: 4 AVDD1 (power) "Analog Supply Pins. The operating range is 4.5 V to 5.5 V. These pins provide the supply voltage for all the analog circuitry on the AD7294. Connect the AVDD and DVDD pins together to ensure that all supply pins are at the (See Datasheet)", 5 AGND1 (power) "Analog Ground. Ground reference point for all analog circuitry on the AD7294. Refer all analog input signals and any external reference signal to this AGND voltage. Connect all seven of these AGND pins to the AGND plane of (See Datasheet)", 6 AGND2 (power) "Analog Ground. Ground reference point for all analog circuitry on the AD7294. Refer all analog input signals and any external reference signal to this AGND voltage. Connect all seven of these AGND pins to the AGND plane of (See Datasheet)", 7 AVDD2 (power) "Analog Supply Pins. The operating range is 4.5 V to 5.5 V. These pins provide the supply voltage for all the analog circuitry on the AD7294. Connect the AVDD and DVDD pins together to ensure that all supply pins are at the (See Datasheet)", 12 AGND3 (power) "Analog Ground. Ground reference point for all analog circuitry on the AD7294. Refer all analog input signals and any external reference signal to this AGND voltage. Connect all seven of these AGND pins to the AGND plane of (See Datasheet)", 13 AVDD3 (power) "Analog Supply Pins. The operating range is 4.5 V to 5.5 V. These pins provide the supply voltage for all the analog circuitry on the AD7294. Connect the AVDD and DVDD pins together to ensure that all supply pins are at the (See Datasheet)", 17 DAC OUT GND AB (power) "Analog Ground. Analog ground pins for the DAC output amplifiers on VOUTA and VOUTB, and VOUTC and VOUTD, respectively.", 18 DAC OUTV+ AB (power) "Analog Supply. Analog supply pins for the DAC output amplifiers on VOUTA and VOUTB, and VOUTC and VOUTD, respectively. The operating range is 4.5 V to 16.5 V.", 21 AGND4 (power) "Analog Ground. Ground reference point for all analog circuitry on the AD7294. Refer all analog input signals and any external reference signal to this AGND voltage. Connect all seven of these AGND pins to the AGND plane of (See Datasheet)", 22 AVDD4 (power) "Analog Supply Pins. The operating range is 4.5 V to 5.5 V. These pins provide the supply voltage for all the analog circuitry on the AD7294. Connect the AVDD and DVDD pins together to ensure that all supply pins are at the (See Datasheet)", 25 DAC OUTV+ CD (power) "Analog Supply. Analog supply pins for the DAC output amplifiers on VOUTA and VOUTB, and VOUTC and VOUTD, respectively. The operating range is 4.5 V to 16.5 V.", 26 DAC OUT GND CD (power) "Analog Ground. Analog ground pins for the DAC output amplifiers on VOUTA and VOUTB, and VOUTC and VOUTD, respectively.", 29 AGND5 (power) "Analog Ground. Ground reference point for all analog circuitry on the AD7294. Refer all analog input signals and any external reference signal to this AGND voltage. Connect all seven of these AGND pins to the AGND plane of (See Datasheet)", 36 OPGND (power) "Dedicated Ground Pin for I2C Interface.", 37 VDRIVE (power) "Logic Power Supply. The voltage supplied at this pin determines at what voltage the interface operates. Decouple this pin to DGND. The voltage range on this pin is 2.7 V to 5.5 V and may be different to the voltage level at (See Datasheet)", 38 DGND (power) "Digital Ground. This pin is the ground for all digital circuitry.", 39 DVDD (power) "Logic Power Supply. The operating range is 4.5 V to 5.5 V. These pins provide the supply voltage for all the digital circuitry on the AD7294. Connect the AVDD and DVDD pins together to ensure that all supply pins are at the (See Datasheet)", 42 DGND (power) "Digital Ground. This pin is the ground for all digital circuitry.", 49 AGND6 (power) "Analog Ground. Ground reference point for all analog circuitry on the AD7294. Refer all analog input signals and any external reference signal to this AGND voltage. Connect all seven of these AGND pins to the AGND plane of (See Datasheet)", 50 AVDD5 (power) "Analog Supply Pins. The operating range is 4.5 V to 5.5 V. These pins provide the supply voltage for all the analog circuitry on the AD7294. Connect the AVDD and DVDD pins together to ensure that all supply pins are at the (See Datasheet)", 51 AGND7 (power) "Analog Ground. Ground reference point for all analog circuitry on the AD7294. Refer all analog input signals and any external reference signal to this AGND voltage. Connect all seven of these AGND pins to the AGND plane of (See Datasheet)", 55 VPP1 (power) "Current Sensor Supply Pins. Power supply pins for the high-side current sense amplifiers. Operating range is from AVDD to 59.4 V. Decouple this supply to AGND.", 56 VPP2 (power) "Current Sensor Supply Pins. Power supply pins for the high-side current sense amplifiers. Operating range is from AVDD to 59.4 V. Decouple this supply to AGND.", 57 EP (power) "The exposed pad is located on the underside of the package. Connect the exposed pad to the ground plane of the PCB using multiple vias."